# EAGLE library part IN24* (library rom)
Serial I2C EEPROM . Integral clone.
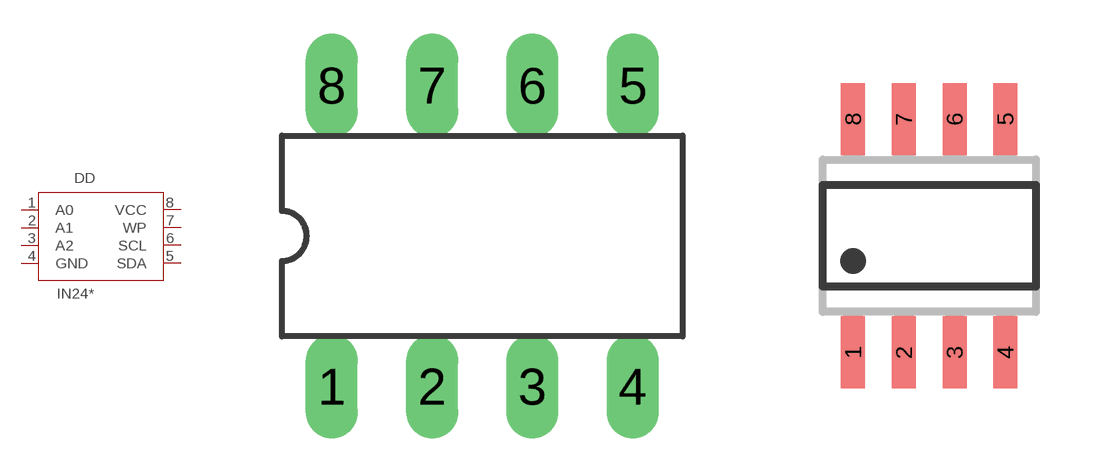
[diagram p2: symbol with the pads of DIL8; footprints DIL8, SO08]

Designator prefix DD

## IN24AA01N, IN24AA02N, IN24AA04N, IN24AA08N, IN24AA128N, IN24AA16N, IN24AA256N, IN24AA32AN, IN24AA64N, IN24C01AN, IN24C02AN, IN24C04AN, IN24C08BN, IN24C16BN, IN24C32AN, IN24C64N, IN24CL04BN, IN24LC01N, IN24LC024N, IN24LC025N, IN24LC04N, IN24LC08BN, IN24LC128N, IN24LC16BN, IN24LC256N, IN24LC32AN, IN24LC64N, IN24LCS52N  [DIL8]
1  A0  in
2  A1  in
3  A2  in
4  GND  pwr
5  SDA  oc
6  SCL  oc
7  WP  in
8  VCC  pwr

## IN24D, IN24AA01D, IN24AA02D, IN24AA04D, IN24AA08D, IN24AA128D, IN24AA16D, IN24AA256D, IN24AA32AD, IN24AA64D, IN24LC01D, IN24LC024D, IN24LC025D, IN24LC04D, IN24LC08BD, IN24LC128D, IN24LC16BD, IN24LC256D, IN24LC32AD, IN24LC64D, IN24LCS52D  [SO08]
Pads as for DIL8

## Footprint DIL8 (pad centres in mm)
Dual In Line package type P
drill 0.813 long: 1 -3.81,-3.81; 2 -1.27,-3.81; 3 1.27,-3.81; 4 3.81,-3.81; 5 3.81,3.81; 6 1.27,3.81; 7 -1.27,3.81; 8 -3.81,3.81

## Footprint SO08 (pad centres in mm)
SMALL OUTLINE INTEGRATED CIRCUIT body 3.9 mm/JEDEC MS-012AA
smd 0.6 x 1.8: 1 -1.905,-2.917; 2 -0.635,-2.917; 3 0.635,-2.917; 4 1.905,-2.917; 5 1.905,2.917; 6 0.635,2.917; 7 -0.635,2.917; 8 -1.905,2.917